# EAGLE library part K-HEADER-FEMALE-1X9- (library elpp-tht-v1.2)
FEMALE HEADER
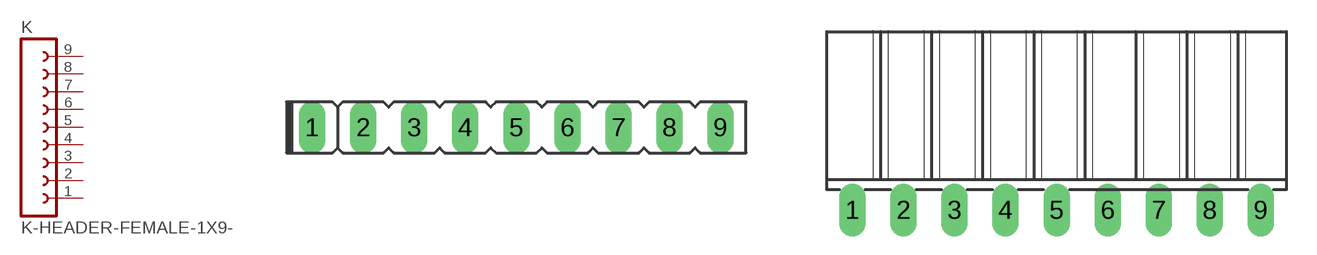
[diagram p21: symbol with the pads of ELPP-SIL-F-9-WAY; footprints ELPP-SIL-F-9-WAY, ELPP-SIL-F-9-WAY-90DEG]

Designator prefix K

## K-HEADER-FEMALE-1X9-V (FARNELL: 9728856; RS: unknown)  [ELPP-SIL-F-9-WAY]
1  1  pas
2  2  pas
3  3  pas
4  4  pas
5  5  pas
6  6  pas
7  7  pas
8  8  pas
9  9  pas

## K-HEADER-FEMALE-1X9-H (FARNELL: 9728880; RS: unknown)  [ELPP-SIL-F-9-WAY-90DEG]
Pads as for ELPP-SIL-F-9-WAY

## Footprint ELPP-SIL-F-9-WAY (pad centres in mm)
FEMALE HEADER, 1 row
drill 0.8 long: 1 -10.16,0; 2 -7.62,0; 3 -5.08,0; 4 -2.54,0; 5 0,0; 6 2.54,0; 7 5.08,0; 8 7.62,0; 9 10.16,0

## Footprint ELPP-SIL-F-9-WAY-90DEG (pad centres in mm)
FEMALE HEADER, 1 row, 90 degrees
drill 0.8 long: 1 -10.16,0; 2 -7.62,0; 3 -5.08,0; 4 -2.54,0; 5 0,0; 6 2.54,0; 7 5.08,0; 8 7.62,0; 9 10.16,0